# Altium footprint library ILI9341.PcbLib: 1 footprints
Each footprint in its own frame and in the unit in brackets; x right, y up, seen from the top. Pads: shape width x height; smd on the part's side, far side on the other; paste and mask are expansions set on the pad; w line width, h text height; cw(c..) or ccw(c..) is an arc to the next point about the centre after c.
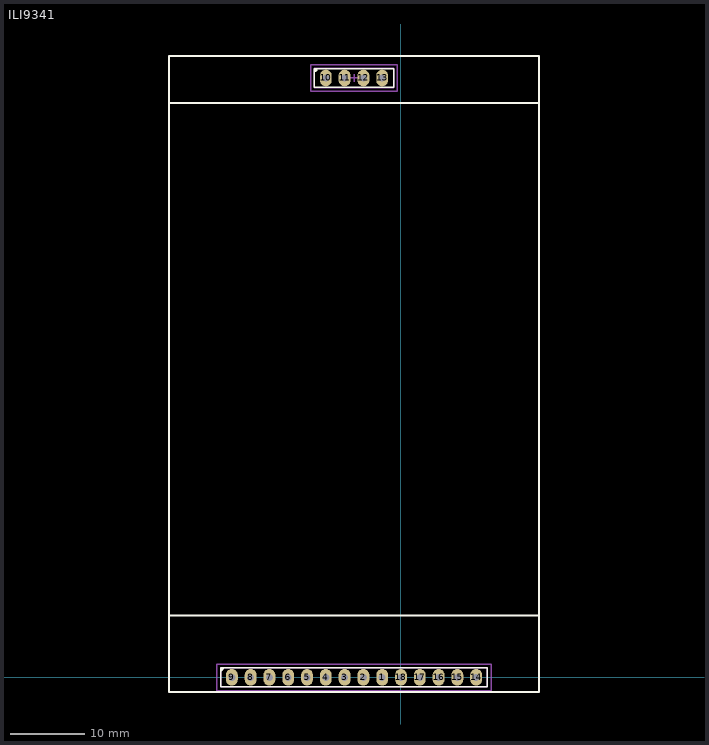
[diagram p0: the footprint, top view; thin cyan lines are the x and y axes]

## ILI9341 [mm]
pads (18):
  oval 1.6x2.25 hole 0.95: 1(-2.54,0) 2(-5.08,0) 3(-7.62,0) 4(-10.16,0) 5(-12.7,0) 6(-15.24,0) 7(-17.78,0) 8(-20.32,0) 9(-22.86,0) 10(-10.16,81.001) 11(-7.62,81.001) 12(-5.08,81.001) 13(-2.54,81.001) 14(10.16,0) 15(7.62,0) 16(5.08,0) 17(2.54,0) 18(0,0)
Top Overlay:
  region: -11.69,82.271 -11.35,82.271 -11.35,82.101 -11.55,81.901 -11.69,81.901
  region: -24.39,1.27 -24.05,1.27 -24.05,1.1 -24.25,0.9 -24.39,0.9
  lines w0.2: -24.39,0.9 ccw(c-24.39,1.24) -24.05,1.24 -24.05,1.27 ; -11.69,-1.27 11.69,-1.27 11.69,1.27 -11.69,1.27 ; -11.69,81.901 ccw(c-11.69,82.241) -11.35,82.241 -11.35,82.271 ; -11.17,-1.27 -24.39,-1.27 -24.39,1.27 -11.17,1.27 ; -11.69,79.731 -11.69,82.271 -1.01,82.271 -1.01,79.731 -11.69,79.731
  lines w0.254: -31.344,8.382 18.644,8.382 ; -31.344,77.597 18.644,77.597 ; -31.344,-2.007 18.644,-2.007 18.644,0 18.644,83.998 -31.344,83.998 -31.344,0 -31.344,-2.007
Mechanical 13:
  lines w0.2: -11.69,-1.3 11.69,-1.3 11.69,1.3 -11.69,1.3 ; -11.17,-1.3 -24.39,-1.3 -24.39,1.3 -11.17,1.3 ; -11.69,79.701 -1.01,79.701 -1.01,82.301 -11.69,82.301 -11.69,79.701
Mechanical 15:
  lines w0.2: -18.28,0 -17.28,0 ; -17.78,-0.5 -17.78,0.5 ; -12.19,-1.8 12.19,-1.8 12.19,1.8 -12.19,1.8 ; -10.67,-1.8 -24.89,-1.8 -24.89,1.8 -10.67,1.8 ; -6.85,81.001 -5.85,81.001 ; -6.35,80.501 -6.35,81.501 ; -0.5,0 0.5,0 ; 0,-0.5 0,0.5 ; -12.19,79.201 -12.19,82.801 -0.51,82.801 -0.51,79.201 -12.19,79.201
3D body "Samtec-SSW-104-03-T-S.STEP": height 8.51, standoff -10.01, extent -11.684,79.794 -1.016,82.207
3D body "Samtec-SSW-105-03-T-S.STEP": height 8.51, standoff -10.01, extent -24.384,-1.206 -11.176,1.207
3D body "Samtec-SSW-109-03-T-S.STEP": height 8.51, standoff -10.01, extent -11.684,-1.206 11.684,1.207